# EAGLE library part KPY10DEV (library Diverse)
Drucksensor KPY10
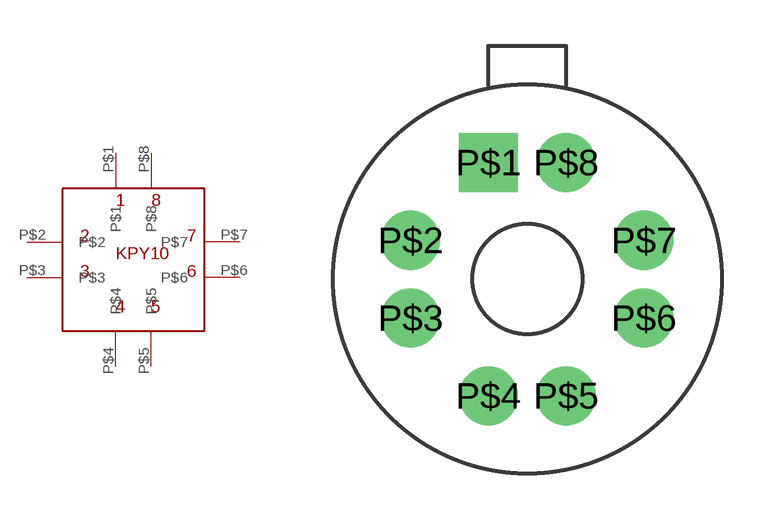
[diagram p11: symbol with the pads of KPY10; footprint KPY10]

Designator prefix -

## KPY10DEV  [KPY10]
P$1  P$1
P$2  P$2
P$3  P$3
P$4  P$4
P$5  P$5
P$6  P$6
P$7  P$7
P$8  P$8

## Footprint KPY10 (pad centres in mm)
KPY10
drill 0.5 pad 1.93 square: P$1 -1.27,3.81
drill 0.5 pad 1.93 round: P$2 -3.81,1.27; P$3 -3.81,-1.27; P$4 -1.27,-3.81; P$5 1.27,-3.81; P$6 3.81,-1.27; P$7 3.81,1.27; P$8 1.27,3.81